# EAGLE library part MAPLE_MINI (library CUSTOM)
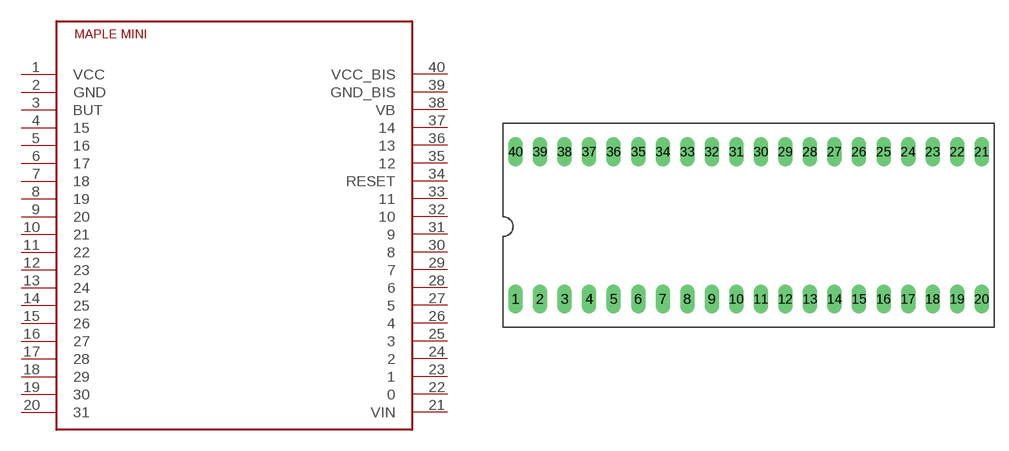
[diagram p1: symbol with the pads of DIL40_MAPLE; footprint DIL40_MAPLE]

Designator prefix -

## MAPLE_MINI  [DIL40_MAPLE]
1  VCC
2  GND
3  BUT
4  15
5  16
6  17
7  18
8  19
9  20
10  21
11  22
12  23
13  24
14  25
15  26
16  27
17  28
18  29
19  30
20  31
21  VIN
22  0
23  1
24  2
25  3
26  4
27  5
28  6
29  7
30  8
31  9
32  10
33  11
34  RESET
35  12
36  13
37  14
38  VB
39  GND_BIS
40  VCC_BIS

## Footprint DIL40_MAPLE (pad centres in mm)
Dual In Line Package
drill 1 long: 1 -24.13,-7.62; 2 -21.59,-7.62; 3 -19.05,-7.62; 4 -16.51,-7.62; 5 -13.97,-7.62; 6 -11.43,-7.62; 7 -8.89,-7.62; 8 -6.35,-7.62; 9 -3.81,-7.62; 10 -1.27,-7.62; 11 1.27,-7.62; 12 3.81,-7.62; 13 6.35,-7.62; 14 8.89,-7.62; 15 11.43,-7.62; 16 13.97,-7.62; 17 16.51,-7.62; 18 19.05,-7.62; 19 21.59,-7.62; 20 24.13,-7.62; 21 24.13,7.62; 22 21.59,7.62; 23 19.05,7.62; 24 16.51,7.62; 25 13.97,7.62; 26 11.43,7.62; 27 8.89,7.62; 28 6.35,7.62; 29 3.81,7.62; 30 1.27,7.62; 31 -1.27,7.62; 32 -3.81,7.62; 33 -6.35,7.62; 34 -8.89,7.62; 35 -11.43,7.62; 36 -13.97,7.62; 37 -16.51,7.62; 38 -19.05,7.62; 39 -21.59,7.62; 40 -24.13,7.62